# EAGLE library part BUSMASTER_PLUG (library hgg)
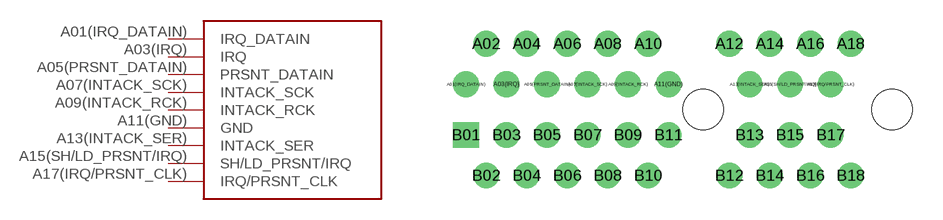
[diagram p4: symbol with the pads of BUSMASTER_SLOT; footprint BUSMASTER_SLOT]

Designator prefix -

## BUSMASTER_PLUG  [BUSMASTER_SLOT]
A01(IRQ_DATAIN)  IRQ_DATAIN
A03(IRQ)  IRQ
A05(PRSNT_DATAIN)  PRSNT_DATAIN
A07(INTACK_SCK)  INTACK_SCK
A09(INTACK_RCK)  INTACK_RCK
A11(GND)  GND
A13(INTACK_SER)  INTACK_SER
A15(SH/LD_PRSNT/IRQ)  SH/LD_PRSNT/IRQ
A17(IRQ/PRSNT_CLK)  IRQ/PRSNT_CLK

## Footprint BUSMASTER_SLOT (pad centres in mm)
drill 0.5 pad 1.27: A01(IRQ_DATAIN) 0,2.5; A02 1,4.5; A03(IRQ) 2,2.5; A04 3,4.5; A05(PRSNT_DATAIN) 4,2.5; A06 5,4.5; A07(INTACK_SCK) 6,2.5; A08 7,4.5; A09(INTACK_RCK) 8,2.5; A10 9,4.5; A11(GND) 10,2.5; A12 13,4.5; A13(INTACK_SER) 14,2.5; A14 15,4.5; A15(SH/LD_PRSNT/IRQ) 16,2.5; A16 17,4.5; A17(IRQ/PRSNT_CLK) 18,2.5; A18 19,4.5; B02 1,-2; B03 2,0; B04 3,-2; B05 4,0; B06 5,-2; B07 6,0; B08 7,-2; B09 8,0; B10 9,-2; B11 10,0; B12 13,-2; B13 14,0; B14 15,-2; B15 16,0; B16 17,-2; B17 18,0; B18 19,-2
drill 0.5 pad 1.27 square: B01 0,0
hole 2 at 11.7,1.25
hole 2 at 21.03,1.25